# Altium footprint library Modules.PcbLib: 6 footprints
Each footprint in its own frame and in the unit in brackets; x right, y up, seen from the top. Pads: shape width x height; smd on the part's side, far side on the other; paste and mask are expansions set on the pad; w line width, h text height; cw(c..) or ccw(c..) is an arc to the next point about the centre after c.
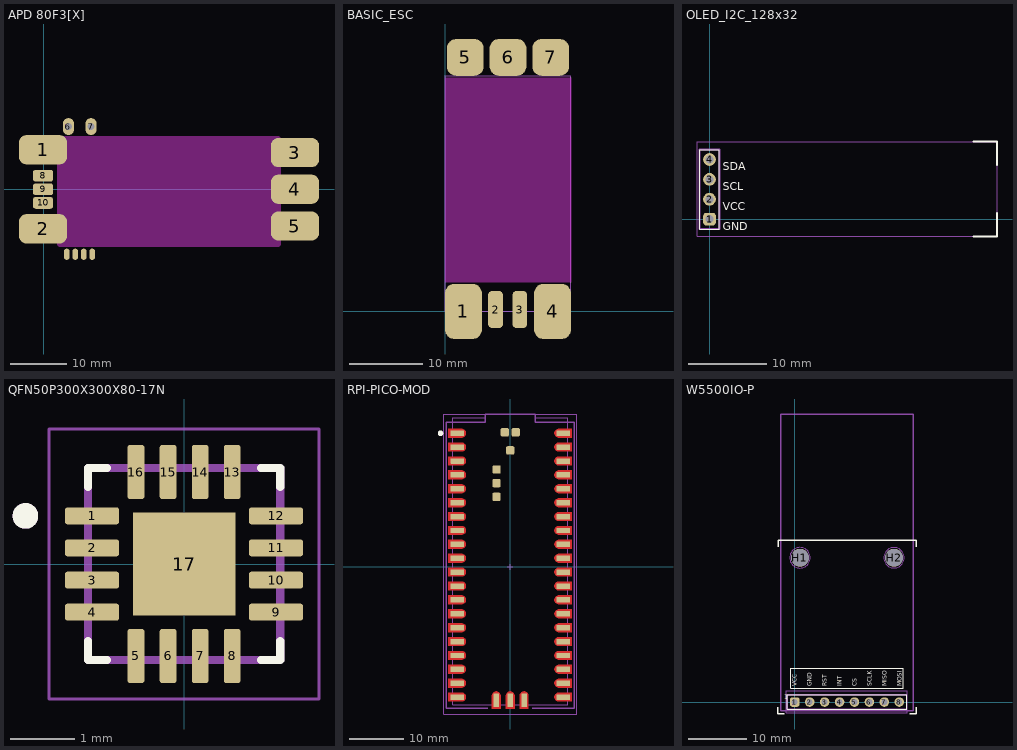
[diagram p0: the footprints below, top view; thin cyan lines are the x and y axes]

## APD 80F3[X] [mm] "Advanced Power Drives 80F3[X] ESC"
pads (14):
  rrect50% 8.5x5.2 smd: 1(-0.1,7) 2(-0.1,-7) 3(44.5,6.5) 4(44.5,0) 5(44.5,-6.5)
  oval 2x3 hole 1.3: 6(4.4,11.1) 7(8.4,11.1)
  rrect50% 3.6x2.1 smd: 8(-0.1,2.4) 9(-0.1,0) 10(-0.1,-2.4)
  oval 1x2 smd: 11(4.1,-11.5) 12(5.6,-11.5) 13(7.1,-11.5) 14(8.6,-11.5)
Keep-Out Layer:
  board cut-out: 2.4,8.9 2.4,-9.7 2.4,-9.799 2.476,-9.983 2.617,-10.124 2.801,-10.2 2.9,-10.2 41.5,-10.2 41.599,-10.2 41.783,-10.124 41.924,-9.983 42,-9.799 42,-9.7 42,8.9 42,8.999 41.924,9.183 41.783,9.324 41.599,9.4 41.5,9.4 2.9,9.4 2.801,9.4 2.617,9.324 2.476,9.183 2.4,8.999
3D body "APD 80F3[x].step": height 4.21, standoff -1.59, extent -3.1,-11 47.4,11

## BASIC_ESC [mm] "Blue Robotics Basic ESC Module"
pads (7):
  rrect50% 5x7.5 smd: 1(2.5,0) 4(14.6,0)
  rrect50% 2x5 smd: 2(6.858,0.254) 3(10.16,0.254)
  rrect50% 5x5 smd: 5(2.75,34.5) 6(8.55,34.5) 7(14.35,34.5)
Keep-Out Layer:
  board cut-out: 0,31.75 17.145,31.75 17.145,3.937 0,3.937
Mechanical 1:
  lines w0.152: 0,0 17.1,0 17.1,32 0,32 0,0
3D body "BESC30-R3.STEP": height 3.35, standoff 0, extent 0,0 17.1,35

## OLED_I2C_128x32 [mm]
pads (4):
  rrect50% 1.62x1.62 hole 1.02: 1(0,0)
  round 1.62 hole 1.02: 2(0,2.54) 3(0,5.08) 4(0,7.62)
Top Overlay:
  lines w0.152: -1.25,-1.27 -1.25,8.89 1.25,8.89 1.25,-1.27 -1.25,-1.27
  lines w0.254: 33.7,-2.2 36.7,-2.2 36.7,0.8 ; 33.7,9.9 36.7,9.9 36.7,6.9
  text "GND" at 1.7,-1.397 h1.02
  text "VCC" at 1.7,1.143 h1.02
  text "SCL" at 1.7,3.683 h1.02
  text "SDA" at 1.7,6.223 h1.02
Mechanical 1:
  lines w0.254: -1.25,-1.27 1.25,-1.27 1.25,8.89 -1.25,8.89 -1.25,-1.27
Mechanical 13:
  lines w0.127: -1.6,-2.2 36.7,-2.2 36.7,9.9 -1.6,9.9 -1.6,-2.2
3D body "OLED_0.91_128x32.stp": height 5.12, standoff -6.34, extent -1.59,-2.23 36.71,9.87

## QFN50P300X300X80-17N [mm]
pads (17):
  rrect25% 0.84x0.26 smd: 1(-1.435,0.75) 2(-1.435,0.25) 3(-1.435,-0.25) 4(-1.435,-0.75) 9(1.435,-0.75) 10(1.435,-0.25) 11(1.435,0.25) 12(1.435,0.75)
  rrect25% 0.26x0.84 smd: 5(-0.75,-1.435) 6(-0.25,-1.435) 7(0.25,-1.435) 8(0.75,-1.435) 13(0.75,1.435) 14(0.25,1.435) 15(-0.25,1.435) 16(-0.75,1.435)
  rect 1.6x1.6 smd paste-2: 17(0,0)
Top Overlay:
  circle w0.2: c-2.475,0.75 r0.1
  lines w0.127: -1.5,-1.2 -1.5,-1.5 -1.2,-1.5 ; -1.5,1.2 -1.5,1.5 -1.2,1.5 ; 1.2,-1.5 1.5,-1.5 1.5,-1.2 ; 1.2,1.5 1.5,1.5 1.5,1.2
Top Paste:
  region: 0.51,-0.51 -0.51,-0.51 -0.51,0.51 0.51,0.51
Mechanical 13:
  circle w0.2: c-2.475,0.75 r0.1
  lines w0.127: -1.5,-1.5 -1.5,1.5 1.5,1.5 1.5,-1.5 -1.5,-1.5
Mechanical 15:
  lines w0.05: -2.105,-2.105 -2.105,2.105 2.105,2.105 2.105,-2.105 -2.105,-2.105

## RPI-PICO-MOD [mm] "RASPBERRY PI PICO RP2040 BOARD"
height 1
pads (49):
  rect 2.5x1 smd mask+0.102: 1(-9.69,24.415) 2(-9.69,21.875) 4(-9.69,16.795) 5(-9.69,14.255) 6(-9.69,11.715) 7(-9.69,9.175) 8(-9.69,6.635) 9(-9.69,4.095) 10(-9.69,1.555) 11(-9.69,-0.985) 12(-9.69,-3.525) 13(-9.69,-6.065) 14(-9.69,-8.605) 15(-9.69,-11.145) 16(-9.69,-13.685) 17(-9.69,-16.225) 18(-9.69,-18.765) 19(-9.69,-21.305) 20(-9.69,-23.845)
  rrect25% 2.5x1 smd mask+0.102: 3(-9.69,19.335)
  rect 2.5x1 smd: 21(9.69,-23.845) 22(9.69,-21.305) 23(9.69,-18.765) 24(9.69,-16.225) 25(9.69,-13.685) 26(9.69,-11.145) 27(9.69,-8.605) 28(9.69,-6.065) 29(9.69,-3.525) 30(9.69,-0.985) 31(9.69,1.555) 32(9.69,4.095) 33(9.69,6.635) 34(9.69,9.175) 35(9.69,11.715) 36(9.69,14.255) 37(9.69,16.795) 38(9.69,19.335) 39(9.69,21.875) 40(9.69,24.415)
  rect 1x2.5 smd: 41(-2.54,-24.415) 42(0,-24.415) 43(2.54,-24.415)
  rrect30% 1.5x1.5 smd: 44(0.01,21.292) 45(1.01,24.592) 46(-0.99,24.592) 47(-2.49,17.792) 48(-2.49,15.292) 49(-2.49,12.792)
Top Layer:
  region: 11.292,-24.629 11.292,-23.029 8.892,-23.029 8.787,-23.029 8.583,-23.084 8.401,-23.189 8.252,-23.338 8.147,-23.52 8.092,-23.724 8.092,-23.934 8.147,-24.138 8.252,-24.32 8.401,-24.469 8.583,-24.574 8.787,-24.629 8.892,-24.629
  region: 11.292,-22.089 11.292,-20.489 8.892,-20.489 8.787,-20.489 8.583,-20.544 8.401,-20.649 8.252,-20.798 8.147,-20.98 8.092,-21.184 8.092,-21.394 8.147,-21.598 8.252,-21.78 8.401,-21.929 8.583,-22.034 8.787,-22.089 8.892,-22.089
  region: 11.292,-19.549 11.292,-17.949 8.892,-17.949 8.787,-17.949 8.583,-18.004 8.401,-18.109 8.252,-18.258 8.147,-18.44 8.092,-18.644 8.092,-18.854 8.147,-19.058 8.252,-19.24 8.401,-19.389 8.583,-19.494 8.787,-19.549 8.892,-19.549
  region: 11.292,-17.009 11.292,-15.409 8.892,-15.409 8.787,-15.409 8.583,-15.464 8.401,-15.569 8.252,-15.718 8.147,-15.9 8.092,-16.104 8.092,-16.314 8.147,-16.518 8.252,-16.7 8.401,-16.849 8.583,-16.954 8.787,-17.009 8.892,-17.009
  region: 11.292,-14.469 11.292,-12.869 8.892,-12.869 8.787,-12.869 8.583,-12.924 8.401,-13.029 8.252,-13.178 8.147,-13.36 8.092,-13.564 8.092,-13.774 8.147,-13.978 8.252,-14.16 8.401,-14.309 8.583,-14.414 8.787,-14.469 8.892,-14.469
  region: 11.292,-11.929 11.292,-10.329 8.892,-10.329 8.787,-10.329 8.583,-10.384 8.401,-10.489 8.252,-10.638 8.147,-10.82 8.092,-11.024 8.092,-11.234 8.147,-11.438 8.252,-11.62 8.401,-11.769 8.583,-11.874 8.787,-11.929 8.892,-11.929
  region: 11.292,-9.389 11.292,-7.789 8.892,-7.789 8.787,-7.789 8.583,-7.844 8.401,-7.949 8.252,-8.098 8.147,-8.28 8.092,-8.484 8.092,-8.694 8.147,-8.898 8.252,-9.08 8.401,-9.229 8.583,-9.334 8.787,-9.389 8.892,-9.389
  region: 11.292,-6.849 11.292,-5.249 8.892,-5.249 8.787,-5.249 8.583,-5.304 8.401,-5.409 8.252,-5.558 8.147,-5.74 8.092,-5.944 8.092,-6.154 8.147,-6.358 8.252,-6.54 8.401,-6.689 8.583,-6.794 8.787,-6.849 8.892,-6.849
  region: 11.292,-4.309 11.292,-2.709 8.892,-2.709 8.787,-2.709 8.583,-2.764 8.401,-2.869 8.252,-3.018 8.147,-3.2 8.092,-3.404 8.092,-3.614 8.147,-3.818 8.252,-4 8.401,-4.149 8.583,-4.254 8.787,-4.309 8.892,-4.309
  region: 11.292,-1.769 11.292,-0.169 8.892,-0.169 8.787,-0.169 8.583,-0.224 8.401,-0.329 8.252,-0.478 8.147,-0.66 8.092,-0.864 8.092,-1.074 8.147,-1.278 8.252,-1.46 8.401,-1.609 8.583,-1.714 8.787,-1.769 8.892,-1.769
  region: 11.292,0.771 11.292,2.371 8.892,2.371 8.787,2.371 8.583,2.316 8.401,2.211 8.252,2.062 8.147,1.88 8.092,1.676 8.092,1.466 8.147,1.262 8.252,1.08 8.401,0.931 8.583,0.826 8.787,0.771 8.892,0.771
  region: 11.292,3.311 11.292,4.911 8.892,4.911 8.787,4.911 8.583,4.856 8.401,4.751 8.252,4.602 8.147,4.42 8.092,4.216 8.092,4.006 8.147,3.802 8.252,3.62 8.401,3.471 8.583,3.366 8.787,3.311 8.892,3.311
  region: 11.292,5.851 11.292,7.451 8.892,7.451 8.787,7.451 8.583,7.396 8.401,7.291 8.252,7.142 8.147,6.96 8.092,6.756 8.092,6.546 8.147,6.342 8.252,6.16 8.401,6.011 8.583,5.906 8.787,5.851 8.892,5.851
  region: 11.292,8.391 11.292,9.991 8.892,9.991 8.787,9.991 8.583,9.936 8.401,9.831 8.252,9.682 8.147,9.5 8.092,9.296 8.092,9.086 8.147,8.882 8.252,8.7 8.401,8.551 8.583,8.446 8.787,8.391 8.892,8.391
  region: 11.292,10.931 11.292,12.531 8.892,12.531 8.787,12.531 8.583,12.476 8.401,12.371 8.252,12.222 8.147,12.04 8.092,11.836 8.092,11.626 8.147,11.422 8.252,11.24 8.401,11.091 8.583,10.986 8.787,10.931 8.892,10.931
  region: 11.292,13.471 11.292,15.071 8.892,15.071 8.787,15.071 8.583,15.016 8.401,14.911 8.252,14.762 8.147,14.58 8.092,14.376 8.092,14.166 8.147,13.962 8.252,13.78 8.401,13.631 8.583,13.526 8.787,13.471 8.892,13.471
  region: 11.292,16.011 11.292,17.611 8.892,17.611 8.787,17.611 8.583,17.556 8.401,17.451 8.252,17.302 8.147,17.12 8.092,16.916 8.092,16.706 8.147,16.502 8.252,16.32 8.401,16.171 8.583,16.066 8.787,16.011 8.892,16.011
  region: 11.292,18.551 11.292,20.151 8.892,20.151 8.787,20.151 8.583,20.096 8.401,19.991 8.252,19.842 8.147,19.66 8.092,19.456 8.092,19.246 8.147,19.042 8.252,18.86 8.401,18.711 8.583,18.606 8.787,18.551 8.892,18.551
  region: 11.292,21.091 11.292,22.691 8.892,22.691 8.787,22.691 8.583,22.636 8.401,22.531 8.252,22.382 8.147,22.2 8.092,21.996 8.092,21.786 8.147,21.582 8.252,21.4 8.401,21.251 8.583,21.146 8.787,21.091 8.892,21.091
  region: 11.292,23.631 11.292,25.231 8.892,25.231 8.787,25.231 8.583,25.176 8.401,25.071 8.252,24.922 8.147,24.74 8.092,24.536 8.092,24.326 8.147,24.122 8.252,23.94 8.401,23.791 8.583,23.686 8.787,23.631 8.892,23.631
  region: -11.292,23.631 -11.292,25.231 -8.892,25.231 -8.787,25.231 -8.583,25.176 -8.401,25.071 -8.252,24.922 -8.147,24.74 -8.092,24.536 -8.092,24.326 -8.147,24.122 -8.252,23.94 -8.401,23.791 -8.583,23.686 -8.787,23.631 -8.892,23.631
  region: -11.292,21.091 -11.292,22.691 -8.892,22.691 -8.787,22.691 -8.583,22.636 -8.401,22.531 -8.252,22.382 -8.147,22.2 -8.092,21.996 -8.092,21.786 -8.147,21.582 -8.252,21.4 -8.401,21.251 -8.583,21.146 -8.787,21.091 -8.892,21.091
  region: -11.292,18.551 -11.292,20.151 -8.892,20.151 -8.787,20.151 -8.583,20.096 -8.401,19.991 -8.252,19.842 -8.147,19.66 -8.092,19.456 -8.092,19.246 -8.147,19.042 -8.252,18.86 -8.401,18.711 -8.583,18.606 -8.787,18.551 -8.892,18.551
  region: -11.292,16.011 -11.292,17.611 -8.892,17.611 -8.787,17.611 -8.583,17.556 -8.401,17.451 -8.252,17.302 -8.147,17.12 -8.092,16.916 -8.092,16.706 -8.147,16.502 -8.252,16.32 -8.401,16.171 -8.583,16.066 -8.787,16.011 -8.892,16.011
  region: -11.292,13.471 -11.292,15.071 -8.892,15.071 -8.787,15.071 -8.583,15.016 -8.401,14.911 -8.252,14.762 -8.147,14.58 -8.092,14.376 -8.092,14.166 -8.147,13.962 -8.252,13.78 -8.401,13.631 -8.583,13.526 -8.787,13.471 -8.892,13.471
  region: -11.292,10.931 -11.292,12.531 -8.892,12.531 -8.787,12.531 -8.583,12.476 -8.401,12.371 -8.252,12.222 -8.147,12.04 -8.092,11.836 -8.092,11.626 -8.147,11.422 -8.252,11.24 -8.401,11.091 -8.583,10.986 -8.787,10.931 -8.892,10.931
  region: -11.292,8.391 -11.292,9.991 -8.892,9.991 -8.787,9.991 -8.583,9.936 -8.401,9.831 -8.252,9.682 -8.147,9.5 -8.092,9.296 -8.092,9.086 -8.147,8.882 -8.252,8.7 -8.401,8.551 -8.583,8.446 -8.787,8.391 -8.892,8.391
  region: -11.292,5.851 -11.292,7.451 -8.892,7.451 -8.787,7.451 -8.583,7.396 -8.401,7.291 -8.252,7.142 -8.147,6.96 -8.092,6.756 -8.092,6.546 -8.147,6.342 -8.252,6.16 -8.401,6.011 -8.583,5.906 -8.787,5.851 -8.892,5.851
  region: -11.292,3.311 -11.292,4.911 -8.892,4.911 -8.787,4.911 -8.583,4.856 -8.401,4.751 -8.252,4.602 -8.147,4.42 -8.092,4.216 -8.092,4.006 -8.147,3.802 -8.252,3.62 -8.401,3.471 -8.583,3.366 -8.787,3.311 -8.892,3.311
  region: -11.292,0.771 -11.292,2.371 -8.892,2.371 -8.787,2.371 -8.583,2.316 -8.401,2.211 -8.252,2.062 -8.147,1.88 -8.092,1.676 -8.092,1.466 -8.147,1.262 -8.252,1.08 -8.401,0.931 -8.583,0.826 -8.787,0.771 -8.892,0.771
  region: -11.292,-1.769 -11.292,-0.169 -8.892,-0.169 -8.787,-0.169 -8.583,-0.224 -8.401,-0.329 -8.252,-0.478 -8.147,-0.66 -8.092,-0.864 -8.092,-1.074 -8.147,-1.278 -8.252,-1.46 -8.401,-1.609 -8.583,-1.714 -8.787,-1.769 -8.892,-1.769
  region: -11.292,-4.309 -11.292,-2.709 -8.892,-2.709 -8.787,-2.709 -8.583,-2.764 -8.401,-2.869 -8.252,-3.018 -8.147,-3.2 -8.092,-3.404 -8.092,-3.614 -8.147,-3.818 -8.252,-4 -8.401,-4.149 -8.583,-4.254 -8.787,-4.309 -8.892,-4.309
  region: -11.292,-6.849 -11.292,-5.249 -8.892,-5.249 -8.787,-5.249 -8.583,-5.304 -8.401,-5.409 -8.252,-5.558 -8.147,-5.74 -8.092,-5.944 -8.092,-6.154 -8.147,-6.358 -8.252,-6.54 -8.401,-6.689 -8.583,-6.794 -8.787,-6.849 -8.892,-6.849
  region: -11.292,-9.389 -11.292,-7.789 -8.892,-7.789 -8.787,-7.789 -8.583,-7.844 -8.401,-7.949 -8.252,-8.098 -8.147,-8.28 -8.092,-8.484 -8.092,-8.694 -8.147,-8.898 -8.252,-9.08 -8.401,-9.229 -8.583,-9.334 -8.787,-9.389 -8.892,-9.389
  region: -11.292,-11.929 -11.292,-10.329 -8.892,-10.329 -8.787,-10.329 -8.583,-10.384 -8.401,-10.489 -8.252,-10.638 -8.147,-10.82 -8.092,-11.024 -8.092,-11.234 -8.147,-11.438 -8.252,-11.62 -8.401,-11.769 -8.583,-11.874 -8.787,-11.929 -8.892,-11.929
  region: -11.292,-14.469 -11.292,-12.869 -8.892,-12.869 -8.787,-12.869 -8.583,-12.924 -8.401,-13.029 -8.252,-13.178 -8.147,-13.36 -8.092,-13.564 -8.092,-13.774 -8.147,-13.978 -8.252,-14.16 -8.401,-14.309 -8.583,-14.414 -8.787,-14.469 -8.892,-14.469
  region: -11.292,-17.009 -11.292,-15.409 -8.892,-15.409 -8.787,-15.409 -8.583,-15.464 -8.401,-15.569 -8.252,-15.718 -8.147,-15.9 -8.092,-16.104 -8.092,-16.314 -8.147,-16.518 -8.252,-16.7 -8.401,-16.849 -8.583,-16.954 -8.787,-17.009 -8.892,-17.009
  region: -11.292,-19.549 -11.292,-17.949 -8.892,-17.949 -8.787,-17.949 -8.583,-18.004 -8.401,-18.109 -8.252,-18.258 -8.147,-18.44 -8.092,-18.644 -8.092,-18.854 -8.147,-19.058 -8.252,-19.24 -8.401,-19.389 -8.583,-19.494 -8.787,-19.549 -8.892,-19.549
  region: -11.292,-22.089 -11.292,-20.489 -8.892,-20.489 -8.787,-20.489 -8.583,-20.544 -8.401,-20.649 -8.252,-20.798 -8.147,-20.98 -8.092,-21.184 -8.092,-21.394 -8.147,-21.598 -8.252,-21.78 -8.401,-21.929 -8.583,-22.034 -8.787,-22.089 -8.892,-22.089
  region: -11.292,-24.629 -11.292,-23.029 -8.892,-23.029 -8.787,-23.029 -8.583,-23.084 -8.401,-23.189 -8.252,-23.338 -8.147,-23.52 -8.092,-23.724 -8.092,-23.934 -8.147,-24.138 -8.252,-24.32 -8.401,-24.469 -8.583,-24.574 -8.787,-24.629 -8.892,-24.629
  region: 3.34,-25.999 1.74,-25.999 1.74,-23.599 1.74,-23.494 1.795,-23.29 1.9,-23.108 2.049,-22.959 2.231,-22.854 2.435,-22.799 2.645,-22.799 2.849,-22.854 3.031,-22.959 3.18,-23.108 3.285,-23.29 3.34,-23.494 3.34,-23.599
  region: 0.8,-25.999 -0.8,-25.999 -0.8,-23.599 -0.8,-23.494 -0.745,-23.29 -0.64,-23.108 -0.491,-22.959 -0.309,-22.854 -0.105,-22.799 0.105,-22.799 0.309,-22.854 0.491,-22.959 0.64,-23.108 0.745,-23.29 0.8,-23.494 0.8,-23.599
  region: -1.74,-25.999 -3.34,-25.999 -3.34,-23.599 -3.34,-23.494 -3.285,-23.29 -3.18,-23.108 -3.031,-22.959 -2.849,-22.854 -2.645,-22.799 -2.435,-22.799 -2.231,-22.854 -2.049,-22.959 -1.9,-23.108 -1.795,-23.29 -1.74,-23.494 -1.74,-23.599
Top Overlay:
  circle w0.508: c-12.738,24.415 r0.254
Mechanical 1:
  lines w0.254: -4.102,-25.877 -11.684,-25.877 -11.684,26.416 -4.572,26.416 -4.572,27.94 4.572,27.94 4.572,26.416 11.684,26.416 11.684,-25.877 4.026,-25.877
Mechanical 13:
  lines w0.1: -10.49,-25.208 10.51,-25.208 10.51,27.218 4.572,27.218 4.572,27.94 -3.048,27.94 -4.572,27.94 -4.572,27.218 -10.49,27.218 -10.49,-25.208
Mechanical 15:
  lines w0.05: -0.5,0 0.5,0 ; 0,-0.5 0,0.5 ; -12.192,-26.924 12.192,-26.924 12.192,27.94 -12.192,27.94 -12.192,-26.924
3D body "Raspberry Pi Pico-R3.STEP": height 3.69, standoff 0, extent -10.49,-25.208 10.51,27.218

## W5500IO-P [mm]
pads (10):
  rrect50% 1.62x1.62 hole 1.02: 1(0,0)
  round 1.62 hole 1.02: 2(2.54,0) 3(5.08,0) 4(7.62,0)
  round 1.62 hole 1: 5(10.16,0) 6(12.7,0) 7(15.24,0) 8(17.78,0)
  round 3 hole 3 unplated: H1(0.89,24.55) H2(16.89,24.55)
Top Overlay:
  lines w0.127: -0.699,2.349 18.479,2.349 18.479,5.779 -0.699,5.779 -0.699,2.349
  lines w0.152: -1.27,-1.25 19.05,-1.25 19.05,1.25 -1.27,1.25 -1.27,-1.25
  lines w0.254: -2.921,-0.889 -2.921,-2.032 -1.778,-2.032 ; -2.794,26.416 -2.794,27.559 20.193,27.559 20.701,27.559 20.701,26.416 ; 19.558,-2.032 20.701,-2.032 20.701,-0.889
  text "SCLK" at 13.081,2.667 h0.76
  text "MISO" at 15.621,2.667 h0.76
  text "MOSI" at 18.161,2.667 h0.76
  text "VCC" at 0.381,2.667 h0.76
  text "RST" at 5.461,2.667 h0.76
  text "GND" at 2.921,2.667 h0.76
  text "INT" at 8.001,2.667 h0.76
  text "CS" at 10.541,2.667 h0.76
  text "1" at -1.778,0.508 h0.76
Mechanical 1:
  lines w0.254: -2.41,-1.5 20.19,-1.5 20.19,49 -2.41,49 -2.41,-1.5 ; -1.27,-1.25 19.05,-1.25 19.05,1.25 -1.27,1.25 -1.27,-1.25
Boundary:
  circle w0.127: c0.89,24.55 r1.75
  circle w0.127: c16.89,24.55 r1.738
  lines w0.127: -1.416,-1.841 19.113,-1.841 19.113,1.901 -1.416,1.901 -1.416,-1.841
3D body "c-534237-6-s-3d.stp": height 8.65, standoff -2.91, extent -1.27,-1.778 19.05,1.778